# Altium footprint library ECE Lib 22.PcbLib: 47 footprints (part 2 of 3)
Each footprint in its own frame and in the unit in brackets; x right, y up, seen from the top. Pads: shape width x height; smd on the part's side, far side on the other; paste and mask are expansions set on the pad; w line width, h text height; cw(c..) or ccw(c..) is an arc to the next point about the centre after c.
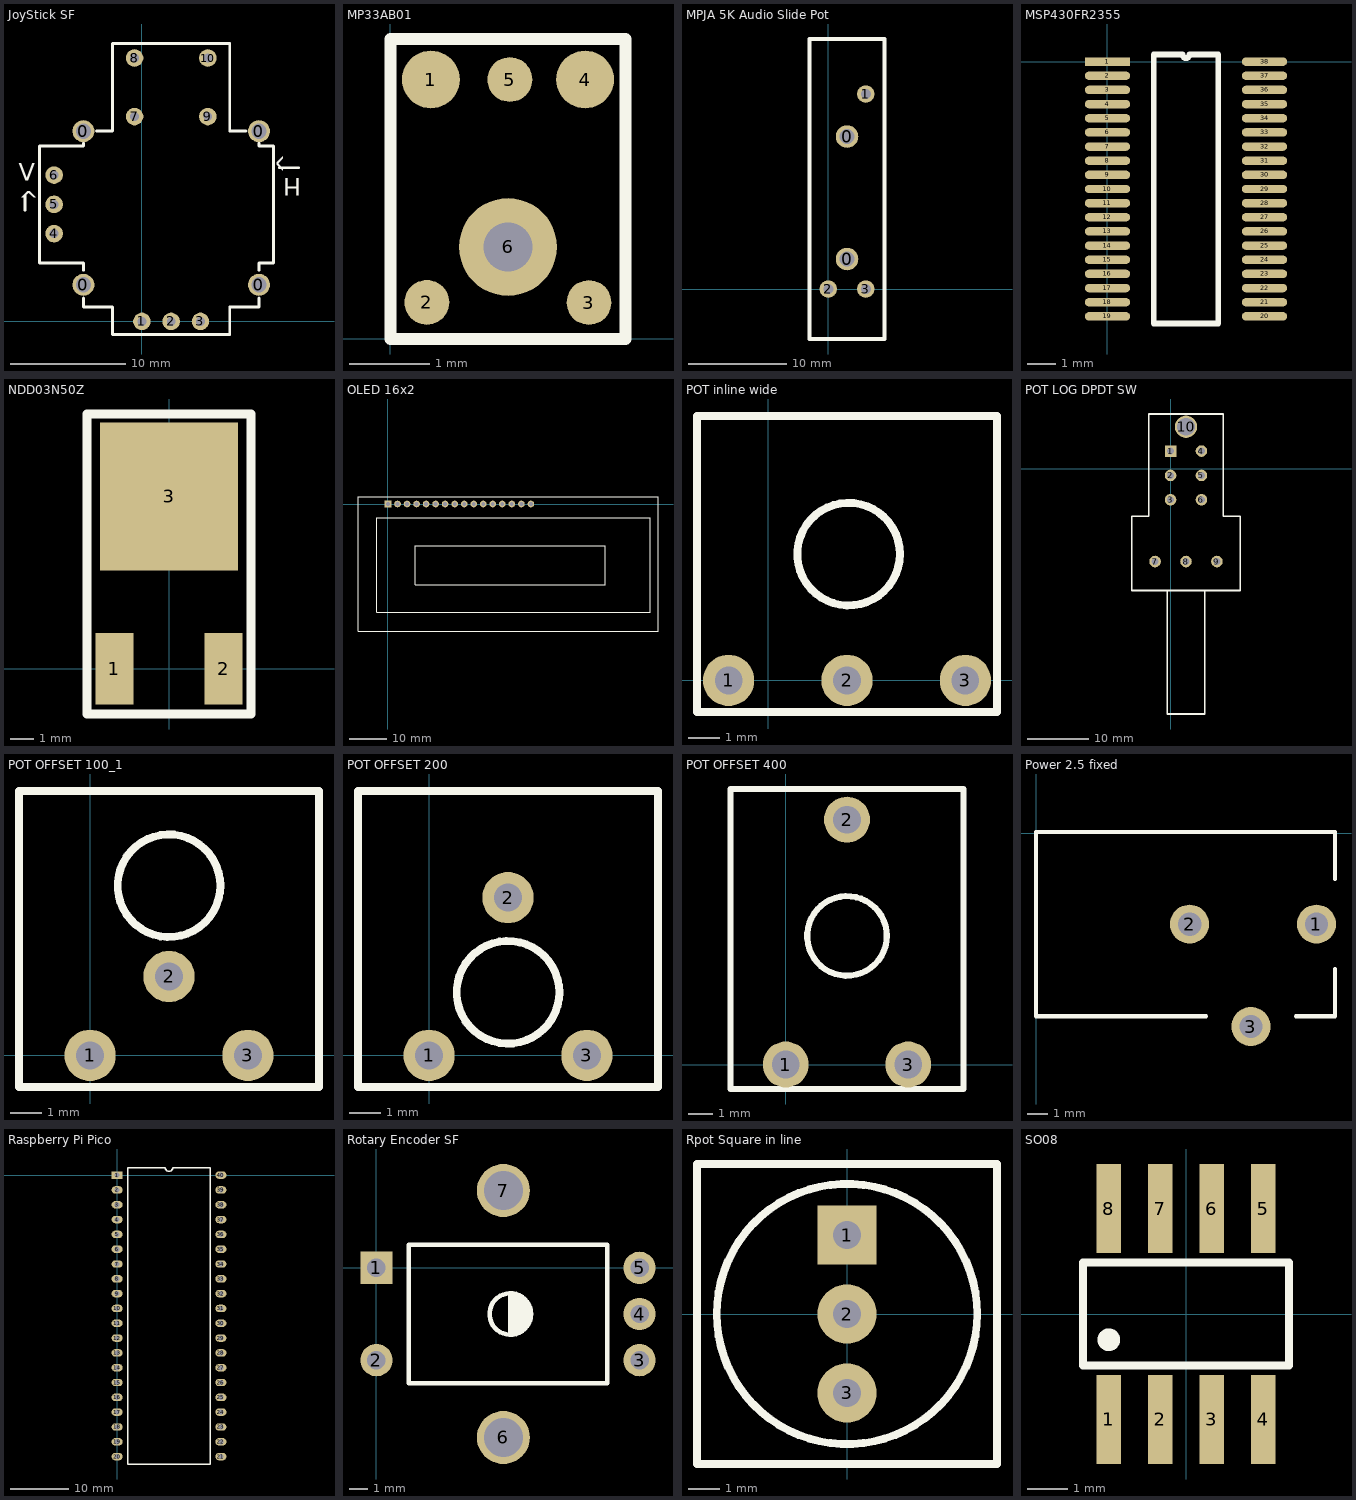
[diagram p1: the footprints below, top view; thin cyan lines are the x and y axes]

## JoyStick SF [mil]
pads (14):
  round 75 hole 52: 0(-200,125) 0(-200,650) 0(400,125) 0(400,650)
  round 60 hole 30: 1(0,0) 2(100,0) 3(200,0) 4(-300,300) 5(-300,400) 6(-300,500) 7(-25,700) 8(-25,900) 9(225,700) 10(225,900)
Top Overlay:
  lines w10: -400,380 -400,430 ; -200,80 -200,50 -100,50 -100,-45 100,-45 300,-45 300,50 400,50 400,80 ; -200,175 -200,200 -350,200 -350,600 -200,600 -200,610 ; -155,650 -100,650 -100,950 275,950 300,950 300,650 355,650 ; 400,175 400,200 450,200 450,600 400,600 400,610 ; 470,525 535,525
  text "V" at -420,480 h60
  text "^" at -420,385 h60
  text "^" at 520,505 h60
  text "H" at 545,490 h60

## MP33AB01 [mil]
pads (6):
  round 28.5 smd: 1(20,128) 4(96.1,128)
  round 22.1 smd: 2(18.05,18.05) 3(98,18) 5(59,128)
  round 48.2 hole 24.1: 6(58.05,45.4)
Top Overlay:
  lines w6: 0,0 116.1,0 116.1,148 0,148 0,0
  text "." at -21,123 h60

## MPJA 5K Audio Slide Pot [mil]
pads (5):
  round 90 hole 60: 0(75,120) 0(75,610)
  round 70 hole 40: 1(150,780) 2(0,0) 3(150,0)
Top Overlay:
  lines w15: -75,-200 -75,1000 225,1000 225,-200 -75,-200

## MSP430FR2355 [mm]
pads (38):
  rect 1.6x0.3 smd: 1(0,0)
  oval 1.6x0.3 smd: 2(0,-0.5) 3(0,-1) 4(0,-1.5) 5(0,-2) 6(0,-2.5) 7(0,-3) 8(0,-3.5) 9(0,-4) 10(0,-4.5) 11(0,-5) 12(0,-5.5) 13(0,-6) 14(0,-6.5) 15(0,-7) 16(0,-7.5) 17(0,-8) 18(0,-8.5) 19(0,-9) 20(5.55,-9) 21(5.55,-8.5) 22(5.55,-8) 23(5.55,-7.5) 24(5.55,-7) 25(5.55,-6.5) 26(5.55,-6) 27(5.55,-5.5) 28(5.55,-5) 29(5.55,-4.5) 30(5.55,-4) 31(5.55,-3.5) 32(5.55,-3) 33(5.55,-2.5) 34(5.55,-2) 35(5.55,-1.5) 36(5.55,-1) 37(5.55,-0.5) 38(5.55,0)
Top Overlay:
  lines w0.2: 1.635,-9.25 1.635,0.25 2.65,0.25 ccw(c2.775,0.25) 2.9,0.25 3.915,0.25 3.915,-9.25 1.635,-9.25

## NDD03N50Z [mil]
pads (3):
  rect 63x118 smd: 1(-90,0) 2(90,0)
  rect 228x244 smd: 3(0,284)
Top Overlay:
  lines w15: -135,-75 135,-75 135,420 -135,420 -135,-75

## OLED 16x2 [mil]
pads (16):
  rect 70x70 hole 40: 1(0,0)
  round 70 hole 40: 2(100,0) 3(200,0) 4(300,0) 5(400,0) 6(500,0) 7(600,0) 8(700,0) 9(800,0) 10(900,0) 11(1000,0) 12(1100,0) 13(1200,0) 14(1300,0) 15(1400,0) 16(1500,0)
Top Overlay:
  lines w10: -314.96,-1338.58 -314.96,78.74 2834.65,78.74 2834.65,-1338.58 -314.96,-1338.58 ; -120.08,-1137.8 -120.08,-145.67 2753.94,-145.67 2753.94,-1137.8 -120.08,-1137.8 ; 283.86,-845.67 2278.94,-845.67 2278.94,-437.8 283.86,-437.8 283.86,-845.67

## POT inline wide [mil]
pads (3):
  round 65 hole 35: 1(-50,0) 2(100,0) 3(250,0)
Top Overlay:
  circle w10: c102,160 r65
  lines w10: -90,-40 -90,335 290,335 290,-40 -90,-40

## POT LOG DPDT SW [mil]
pads (10):
  rect 75x75 hole 45: 1(0,115)
  round 75 hole 45: 2(0,-42.5) 3(0,-200) 4(200,115) 5(200,-42.5) 6(200,-200) 7(-100,-600) 8(100,-600) 9(300,-600)
  round 145 hole 115: 10(100,272.5)
Top Overlay:
  lines w10: -20,-787.5 -20,-1587 220,-1587 220,-787.5 ; -250,-787.5 -250,-307.5 -140,-307.5 -140,355 340,355 340,-307.5 450,-307.5 450,-787.5 -250,-787.5

## POT OFFSET 100_1 [mil]
pads (3):
  round 65 hole 35: 1(0,0) 2(100,100) 3(200,0)
Top Overlay:
  circle w10: c100,215 r65
  lines w10: -90,-40 290,-40 290,335 -90,335 -90,-40

## POT OFFSET 200 [mil]
pads (3):
  round 65 hole 35: 1(0,0) 2(100,200) 3(200,0)
Top Overlay:
  circle w10: c100,80 r65
  lines w10: -90,-40 290,-40 290,335 -90,335 -90,-40

## POT OFFSET 400 [mil]
pads (3):
  round 75 hole 45: 1(0,0) 2(100,400) 3(200,0)
Top Overlay:
  circle w10: c100,210 r65
  lines w10: -90,-40 290,-40 290,450 -90,450 -90,-40

## Power 2.5 fixed [mm]
pads (3):
  round 1.905 hole 1.143: 1(13.7,-4.445) 2(7.5,-4.445) 3(10.5,-9.445)
Top Overlay:
  lines w0.2: 8.3,-8.945 0,-8.945 0,0.055 14.6,0.055 14.6,-2.245 ; 12.7,-8.945 14.6,-8.945 14.6,-6.645

## Raspberry Pi Pico [mil]
pads (40):
  rect 75x50 hole 35: 1(0,0)
  oval 75x50 hole 35: 2(0,-100) 3(0,-200) 4(0,-300) 5(0,-400) 6(0,-500) 7(0,-600) 8(0,-700) 9(0,-800) 10(0,-900) 11(0,-1000) 12(0,-1100) 13(0,-1200) 14(0,-1300) 15(0,-1400) 16(0,-1500) 17(0,-1600) 18(0,-1700) 19(0,-1800) 20(0,-1900) 21(700,-1900) 22(700,-1800) 23(700,-1700) 24(700,-1600) 25(700,-1500) 26(700,-1400) 27(700,-1300) 28(700,-1200) 29(700,-1100) 30(700,-1000) 31(700,-900) 32(700,-800) 33(700,-700) 34(700,-600) 35(700,-500) 36(700,-400) 37(700,-300) 38(700,-200) 39(700,-100) 40(700,0)
Top Overlay:
  lines w10: 72.5,-1950 627.5,-1950 627.5,50 375,50 cw(c350,50) 325,50 72.5,50 72.5,-1950

## Rotary Encoder SF [mil]
pads (7):
  rect 70x70 hole 40: 1(0,0)
  round 70 hole 40: 2(0,-200) 3(570,-200) 4(570,-100) 5(570,0)
  round 115 hole 85: 6(275,-367.5) 7(275,167.5)
Top Overlay:
  circle w10: c290,-100 r45
  lines w10: 290,-55 290,-145 300,-140 300,-60 310,-65 310,-140 320,-130 320,-70 325,-85 325,-120 ; 310,50 500,50 500,-250 70,-250 70,50 315,50

## Rpot Square in line [mil]
pads (3):
  rect 75x75 hole 35: 1(0,100)
  round 75 hole 35: 2(0,0) 3(0,-100)
Top Overlay:
  circle w10: c0,0 r164.92
  lines w10: -190,-190 0,-190 190,-190 190,190 -190,190 -190,-190

## SO08 [mm]
pads (8):
  rect 0.6x2.2 smd: 1(-1.905,-2.6) 2(-0.635,-2.6) 3(0.635,-2.6) 4(1.905,-2.6) 5(1.905,2.6) 6(0.635,2.6) 7(-0.635,2.6) 8(-1.905,2.6)
Top Overlay:
  circle w0.305: c-1.905,-0.635 r0.127
  lines w0.203: -2.54,-1.27 -2.54,1.27 2.54,1.27 2.54,-1.27 -2.54,-1.27